# Altium schematic symbol library IEEE_Workshop_Schematic_Symbols.SchLib: 24 symbols
Pins are listed as number, name and electrical type; pins without a type are passive.

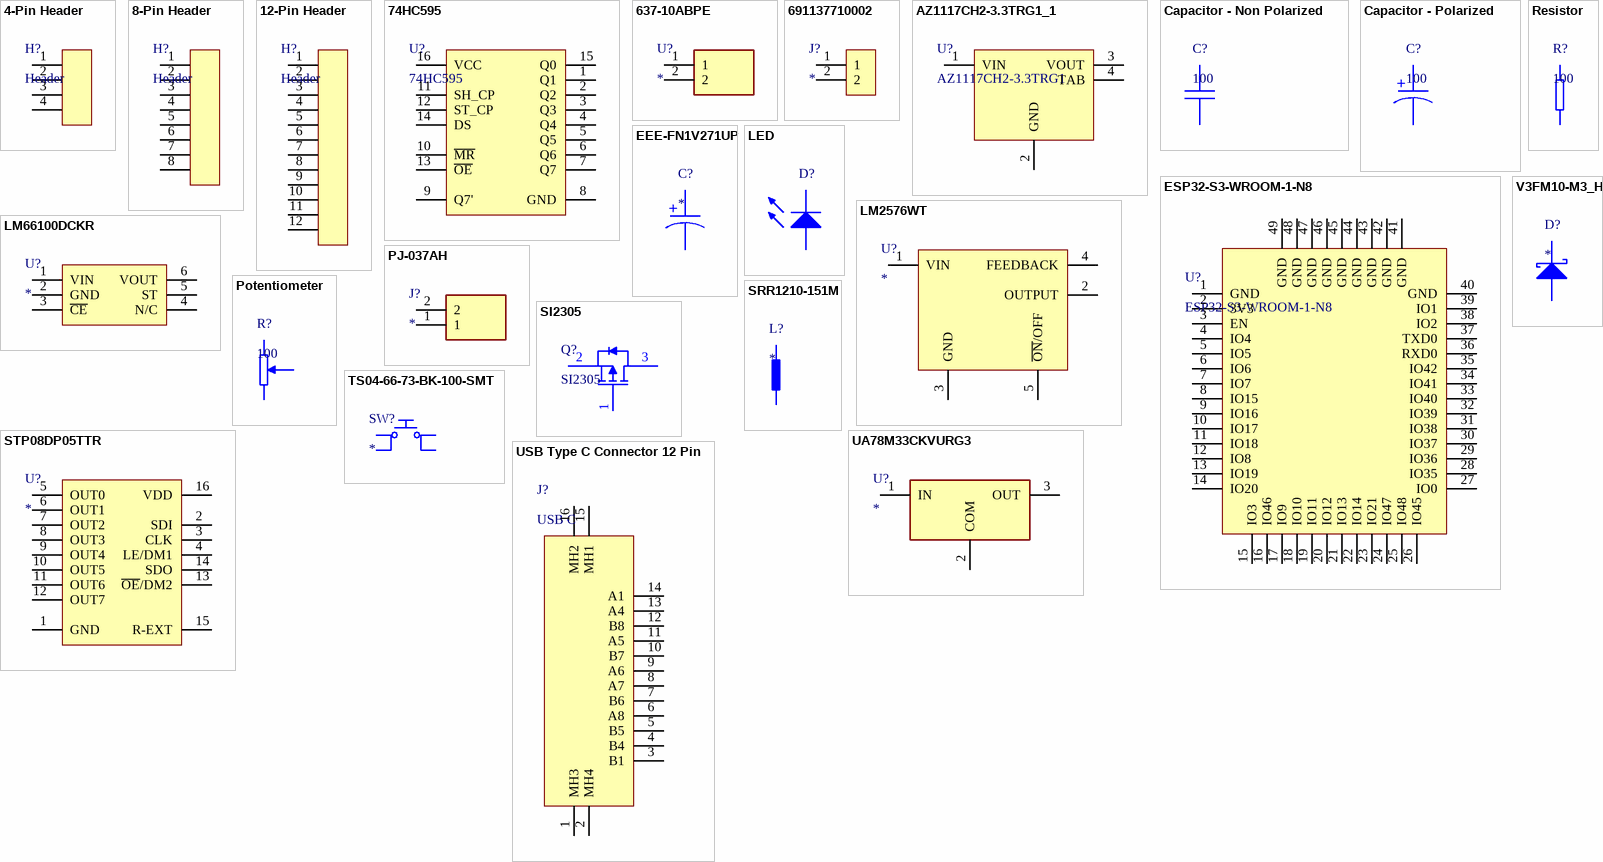
[diagram p0: symbols 4-Pin Header to V3FM10-M3_H]

## 4-Pin Header
designator H?, comment Header
4-Pin Header
footprint Header_1X4
pins: 1, 2, 3, 4

## 8-Pin Header
designator H?, comment Header
8-Pin Header
footprint Header_1X8
pins: 1, 2, 3, 4, 5, 6, 7, 8

## 12-Pin Header
designator H?, comment Header
12-Pin Header
footprint Header_1X12
pins: 1, 2, 3, 4, 5, 6, 7, 8, 9, 10, 11, 12

## 74HC595
designator U?
Shift Register
footprint TSSOP16
pins: 1 Q1, 2 Q2, 3 Q3, 4 Q4, 5 Q5, 6 Q6, 7 Q7, 8 GND, 9 Q7', 10 ~{MR}, 11 SH_CP, 12 ST_CP, 13 ~{OE}, 14 DS, 15 Q0, 16 VCC

## 637-10ABPE
designator U?
Undefined or Miscellaneous; Manufacturer_Name: Wakefield Thermal; Manufacturer_Part_Number: 637-10ABPE; Datasheet Link: https://media.digikey.com/pdf/Data%20Sheets/Wakefield%20Thermal%20PDFs/634%20Heat%20Sinks.pdf; Height: 25.4mm; Mouser Part Number: 567-637-10ABPE; Mouser Price/Stock: https://www.mouser.co.uk/ProductDetail/Wakefield-Vette/637-10ABPE?qs=1%252ByrAFyf4wFy1bU0h8s7wA%3D%3D
footprint 63710ABPE
pins: 1, 2

## 691137710002
designator J?
Connector; Manufacturer_Name: Wurth Elektronik; Manufacturer_Part_Number: 691137710002; Datasheet Link: https://katalog.we-online.com/em/datasheet/691137710002.pdf; Height: 11.6mm; Mouser Part Number: 710-691137710002; Mouser Price/Stock: https://www.mouser.co.uk/ProductDetail/Wurth-Elektronik/691137710002?qs=lBTPRtX1sU9LnHBbviNKGA%3D%3D
footprint SHDR2W70P0X500_1X2_1000X750X1160P
pins: 1, 2

## AZ1117CH2-3.3TRG1_1
designator U?, comment AZ1117CH2-3.3TRG1
3.3V Linear Voltage Regulator
footprint SOT223
pins: 1 VIN, 2 GND, 3 VOUT, 4 TAB

## Capacitor - Non Polarized
designator C?, comment 100
Non Polarized Capacitor
pins: 1, 2

## Capacitor - Polarized
designator C?, comment 100
Polarized Capacitor
pins: 1, 2
text: +

## EEE-FN1V271UP
designator C?
Capacitor Polarised; Manufacturer_Name: Panasonic; Manufacturer_Part_Number: EEE-FN1V271UP; Datasheet Link: http://industrial.panasonic.com/cdbs/www-data/pdf/RDE0000/RDE0000C1259.pdf; Height: 10.8mm; Mouser Part Number: 667-EEE-FN1V271UP; Mouser Price/Stock: https://www.mouser.co.uk/ProductDetail/Panasonic/EEE-FN1V271UP/?qs=OlC7AqGiEDkrGQxqM1X3hg%3D%3D; Arrow Part Number: EEE-FN1V271UP; Arrow Price/Stock: https://www.arrow.com/en/products/eee-fn1v271up/panasonic
footprint EEHZT1E331UP
pins: 1, 2
text: +

## ESP32-S3-WROOM-1-N8
designator U?
ESP32 Microcontroller with Bluetooth and Wifi
footprint ESP32-S3-WROOM-1-N8
pins: 1 GND, 2 3V3, 3 EN, 4 IO4, 5 IO5, 6 IO6, 7 IO7, 8 IO15, 9 IO16, 10 IO17, 11 IO18, 12 IO8, 13 IO19, 14 IO20, 15 IO3, 16 IO46, 17 IO9, 18 IO10, 19 IO11, 20 IO12, 21 IO13, 22 IO14, 23 IO21, 24 IO47, 25 IO48, 26 IO45, 27 IO0, 28 IO35, 29 IO36, 30 IO37, 31 IO38, 32 IO39, 33 IO40, 34 IO41, 35 IO42, 36 RXD0, 37 TXD0, 38 IO2, 39 IO1, 40 GND, 41 GND, 42 GND, 43 GND, 44 GND, 45 GND, 46 GND, 47 GND, 48 GND, 49 GND

## LED
designator D?
General Purpose LED; ComponentLink1Description: Datasheet; ComponentLink1URL: https://www.smc-diodes.com/propdf/1N4148W%20N0571%20REV.E.pdf
footprint LEDM2012X80N
pins: 1 K, 2 A

## LM2576WT
designator U?
Integrated Circuit; Manufacturer_Name: Microchip; Manufacturer_Part_Number: LM2576WU-TR; Datasheet Link: http://ww1.microchip.com/downloads/en/DeviceDoc/lm2576.pdf; Mouser Part Number: 998-LM2576WT; Mouser Price/Stock: https://www.mouser.co.uk/ProductDetail/Microchip-Technology/LM2576-5.0WU-TR?qs=Y3Q3JoKAO1SBuj%2FVzZkeQA%3D%3D; Arrow Part Number: LM2576-5.0WU-TR; Arrow Price/Stock: https://www.arrow.com/en/products/lm2576-5.0wu-tr/microchip-technology?region=nac
footprint TO-220-5
pins: 1 VIN, 2 OUTPUT, 3 GND, 4 FEEDBACK, 5 ~{ON}/OFF

## LM66100DCKR
designator U?
5.5-V, 1.5-A 79-mΩ, Low IQ Ideal Diode With Input Polarity Protection; Manufacturer_Name: Texas Instruments; Manufacturer_Part_Number: LM66100DCKR; Datasheet Link: http://www.ti.com/lit/gpn/LM66100; Height: 1.1mm; Mouser Part Number: 595-LM66100DCKR; Mouser Price/Stock: https://www.mouser.co.uk/ProductDetail/Texas-Instruments/LM66100DCKR?qs=vLWxofP3U2y2yPPrXoBBoA%3D%3D; Arrow Part Number: LM66100DCKR; Arrow Price/Stock: https://www.arrow.com/en/products/lm66100dckr/texas-instruments?region=nac
footprint SC70-6
pins: 1 VIN, 2 GND, 3 ~{CE}, 4 N/C, 5 ST, 6 VOUT

## PJ-037AH
designator J?
Connector; Manufacturer_Name: Same Sky; Manufacturer_Part_Number: PJ-037AH; Datasheet Link: https://www.arrow.com/en/products/pj-037ah/cui-devices; Height: 11.2mm; Mouser Part Number: 490-PJ-037AH; Mouser Price/Stock: https://www.mouser.co.uk/ProductDetail/CUI-Devices/PJ-037AH?qs=WyjlAZoYn50M7m1AkzfPaQ%3D%3D; Arrow Part Number: PJ-037AH; Arrow Price/Stock: https://www.arrow.com/en/products/pj-037ah/cui-devices?region=nac
footprint PJ037AH
pins: 1, 2

## Potentiometer
designator R?, comment 100
Potentionmeter
pins: 1, 2, 3

## Resistor
designator R?, comment 100
Resistor
pins: 1, 2

## SI2305
designator Q?
General Purpose P-Channel MOSFET; ComponentLink1Description: Datasheet; ComponentLink1URL: https://www.vishay.com/docs/64847/si2305cd.pdf
footprint SOT23
pins: 1 G, 2 S, 3 D

## SRR1210-151M
designator L?
Inductor; Manufacturer_Name: Bourns; Manufacturer_Part_Number: SRR1210-151M; Datasheet Link: https://www.bourns.com/docs/Product-Datasheets/SRR1210.pdf; Height: 10mm; Mouser Part Number: 652-SRR1210-151M; Mouser Price/Stock: https://www.mouser.co.uk/ProductDetail/Bourns/SRR1210-151M?qs=4vvWAaIu%2Fq7S1x5W5meWRQ%3D%3D; Arrow Part Number: SRR1210-151M; Arrow Price/Stock: https://www.arrow.com/en/products/srr1210-151m/bourns?region=nac
footprint INDPM120120X1000N-D
pins: 1, 2

## STP08DP05TTR
designator U?
LED Driver; Manufacturer_Name: STMicroelectronics; Manufacturer_Part_Number: STP08DP05TTR; Datasheet Link: https://componentsearchengine.com/Datasheets/2/STP08DP05TTR.pdf; Height: 1.2mm; Mouser Part Number: 511-STP08DP05TTR; Mouser Price/Stock: https://www.mouser.co.uk/ProductDetail/STMicroelectronics/STP08DP05TTR?qs=xgiOkRdDJ0m7T%2FaY25F5vQ%3D%3D; Arrow Part Number: STP08DP05TTR; Arrow Price/Stock: https://www.arrow.com/en/products/stp08dp05ttr/stmicroelectronics?region=nac
footprint TSSOP16
pins: 1 GND, 2 SDI, 3 CLK, 4 LE/DM1, 5 OUT0, 6 OUT1, 7 OUT2, 8 OUT3, 9 OUT4, 10 OUT5, 11 OUT6, 12 OUT7, 13 ~{OE}/DM2, 14 SDO, 15 R-EXT, 16 VDD

## TS04-66-73-BK-100-SMT
designator SW?
Switch; Manufacturer_Name: Same Sky; Manufacturer_Part_Number: TS04-66-73-BK-100-SMT; Datasheet Link: https://www.sameskydevices.com/product/resource/supplyframepdf/ts04.pdf; Height: 7.6mm; Mouser Part Number: 179-TS046673BK100SMT; Mouser Price/Stock: https://www.mouser.co.uk/ProductDetail/Same-Sky/TS04-66-73-BK-100-SMT?qs=A6eO%252BMLsxmRAmp3wqRUzZw%3D%3D; Arrow Part Number: TS04-66-73-BK-100-SMT; Arrow Price/Stock: https://www.arrow.com/en/products/ts04-66-73-bk-100-smt/cui-devices?utm_currency=USD&region=nac
footprint Tactile Button 6.0mm x 6.0mm
pins: 1, 2, 3, 4

## UA78M33CKVURG3
designator U?
Linear Voltage Regulator; Manufacturer_Name: Texas Instruments; Manufacturer_Part_Number: UA78M33CKVURG3; Datasheet Link: https://www.ti.com/lit/gpn/ua78m?HQS=ti-null-null-sf-df-pf-sep-wwe&DCM=yes; Height: 2.52mm; Mouser Part Number: 595-UA78M33CKVURG3; Mouser Price/Stock: https://www.mouser.co.uk/ProductDetail/Texas-Instruments/UA78M33CKVURG3?qs=0O%2FZFlpUpJXrDg4gfD1Q2g%3D%3D; Arrow Part Number: UA78M33CKVURG3; Arrow Price/Stock: https://www.arrow.com/en/products/ua78m33ckvurg3/texas-instruments?region=nac
footprint TO-252-3
pins: 1 IN, 2 COM, 3 OUT

## USB Type C Connector 12 Pin
designator J?, comment USB C
footprint USB TYPE C 12 PIN
pins: 1 MH3, 2 MH4, 3 B1, 4 B4, 5 B5, 6 A8, 7 B6, 8 A7, 9 A6, 10 B7, 11 A5, 12 B8, 13 A4, 14 A1, 15 MH1, 16 MH2

## V3FM10-M3_H
designator D?
Schottky Diode; Manufacturer_Name: Vishay; Manufacturer_Part_Number: V3FM10-M3/H; Datasheet Link: https://mouser.componentsearchengine.com/Datasheets/1/V3FM10-M3_H.pdf; Height: 1.08mm; Mouser Part Number: 78-V3FM10-M3/H; Mouser Price/Stock: https://www.mouser.co.uk/ProductDetail/Vishay-General-Semiconductor/V3FM10-M3-H?qs=F5EMLAvA7IChj%2FkhLK3e0A%3D%3D; Arrow Part Number: V3FM10-M3/H; Arrow Price/Stock: https://www.arrow.com/en/products/v3fm10-m3h/vishay
footprint DO-219AB
pins: 1 K, 2 A